# EAGLE library part 74AUP1G32GS,132 (library 74AUP1G32GS_132)
74AUP1G32 - Low-power 2-input OR-gate@en-us Source: Datasheet <https://componentsearchengine.com/Datasheets/1/74AUP1G32GS,132.pdf>
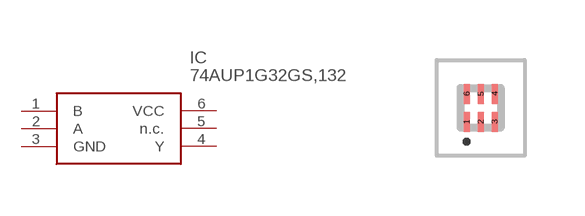
[diagram p0: symbol with the pads of 74LVC1G3157GS132; footprint 74LVC1G3157GS132]

Designator prefix IC

## 74AUP1G32GS,132 (Description: 74AUP1G32 - Low-power 2-input OR-gate@en-us; Height: 0.35mm; Manufacturer_Name: Nexperia; Manufacturer_Part_Number: 74AUP1G32GS,132; Mouser_Part_Number: 771-74AUP1G32GS132; Mouser_Price-Stock: https://www.mouser.com/Search/Refine.aspx?Keyword=771-74AUP1G32GS132)  [74LVC1G3157GS132]
1  B
2  A
3  GND
4  Y
5  n.c.
6  VCC

## Footprint 74LVC1G3157GS132 (pad centres in mm)
SOT1202
smd 0.15 x 0.5: 1 -0.35,-0.35; 2 0,-0.35; 3 0.35,-0.35; 4 0.35,0.35; 5 0,0.35; 6 -0.35,0.35